# EAGLE library part MS5607-02BA03 (library MS5607-02BA03)
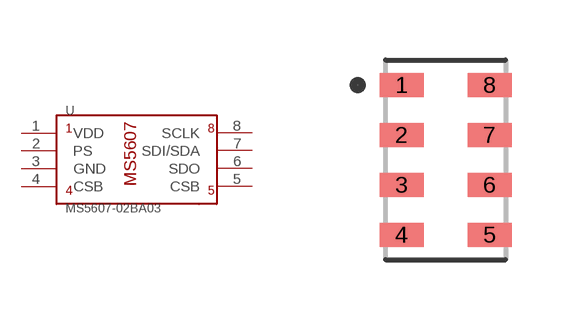
[diagram p0: symbol with the pads of TE_MS860702BA01-50; footprint TE_MS860702BA01-50]

Designator prefix U

## MS5607-02BA03  [TE_MS860702BA01-50]
1  VDD  pwr
2  PS  in
3  GND  pwr
4  CSB  in
5  CSB  out
6  SDO  out
7  SDI/SDA
8  SCLK  in

## Footprint TE_MS860702BA01-50 (pad centres in mm)
smd 1.1 x 0.6: 1 -1.1,1.875; 2 -1.1,0.625; 3 -1.1,-0.625; 4 -1.1,-1.875; 5 1.1,-1.875; 6 1.1,-0.625; 7 1.1,0.625; 8 1.1,1.875